# Altium schematic symbol library BSS138AKM-QYL.SchLib: 1 symbol
Pins are listed as number, name and electrical type; pins without a type are passive.

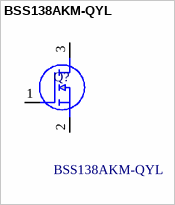
[diagram p0: symbol BSS138AKM-QYL]

## BSS138AKM-QYL
designator Q?
BSS138AKM-Q - 60 V, N-channel Trench MOSFET; Manufacturer_Name: Nexperia; Geometry.Height: 0.5mm; Mouser Part Number: 771-BSS138AKM-QYL; Mouser Price/Stock: https://www.mouser.co.uk/ProductDetail/Nexperia/BSS138AKM-QYL?qs=wT7LY0lnAe1Y9Jh16X3Z%2Fg%3D%3D; Manufacturer_Part_Number: BSS138AKM-QYL; Datasheet Link: https://assets.nexperia.com/documents/data-sheet/BSS138AKM-Q.pdf
footprint BSS138AKMQYL
pins: 1 G, 2 S, 3 D